# EAGLE library part AKL59-13 (library con-ria-59)
RIA Anschlussklemme Typ 59, Raster 3,5 mm, Polzahl 13
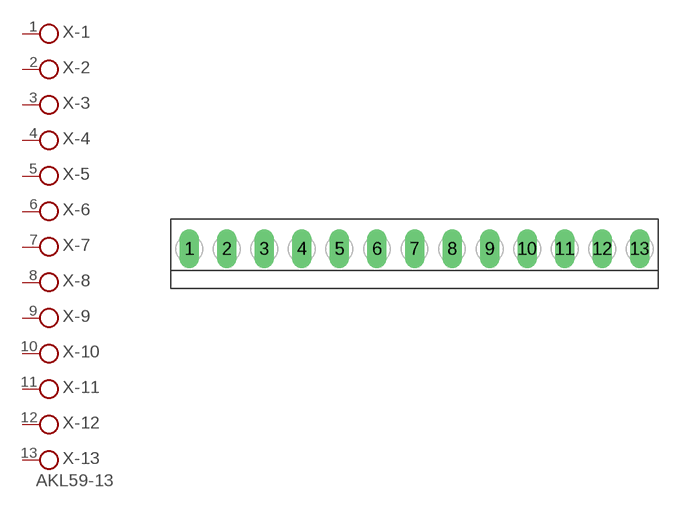
[diagram p7: symbol with the pads of 13POL35; footprint 13POL35]

Designator prefix X; gates -1=PIN -2=PIN -3=PIN -4=PIN -5=PIN -6=PIN -7=PIN -8=PIN -9=PIN -10=PIN -11=PIN -12=PIN -13=PINV

## AKL59-13  [13POL35]
1  -1:1  pas
2  -2:1  pas
3  -3:1  pas
4  -4:1  pas
5  -5:1  pas
6  -6:1  pas
7  -7:1  pas
8  -8:1  pas
9  -9:1  pas
10  -10:1  pas
11  -11:1  pas
12  -12:1  pas
13  -13:1  pas

## Footprint 13POL35 (pad centres in mm)
Raster 3,5 mm, Polzahl 13
drill 1.2 long: 1 -21,0; 2 -17.5,0; 3 -14,0; 4 -10.5,0; 5 -7,0; 6 -3.5,0; 7 0,0; 8 3.5,0; 9 7,0; 10 10.5,0; 11 14,0; 12 17.5,0; 13 21,0